# Altium footprint library walkeeg_lib.PcbLib: 2 footprints
Each footprint in its own frame and in the unit in brackets; x right, y up, seen from the top. Pads: shape width x height; smd on the part's side, far side on the other; paste and mask are expansions set on the pad; w line width, h text height; cw(c..) or ccw(c..) is an arc to the next point about the centre after c.
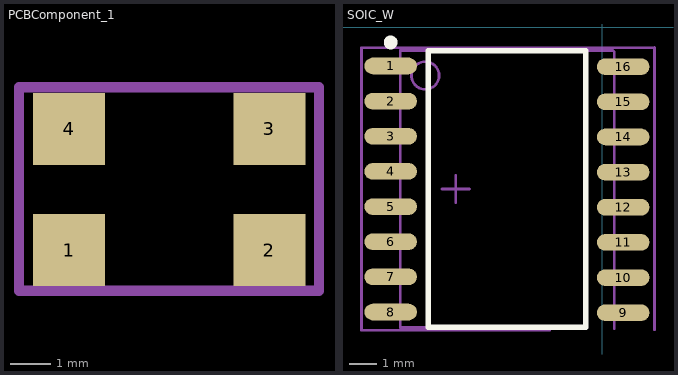
[diagram p0: the footprints below, top view; thin cyan lines are the x and y axes]

## PCBComponent_1 [mm]
pads (4):
  rect 1.8x1.8 smd: 1(-527.575,-725.425) 2(-522.575,-725.425) 3(-522.575,-722.4) 4(-527.575,-722.4)
Mechanical 1:
  lines w0.254: -528.828,-726.44 -528.828,-721.36 -521.335,-721.36 -521.335,-726.44 -528.828,-726.44

## SOIC_W [mm]
pads (16):
  oval 1.9x0.6 smd: 1(-7.654,-1.391) 2(-7.654,-2.661) 3(-7.654,-3.931) 4(-7.654,-5.201) 5(-7.654,-6.471) 6(-7.654,-7.741) 7(-7.654,-9.011) 8(-7.654,-10.281) 9(0.746,-10.306) 10(0.746,-9.036) 11(0.746,-7.766) 12(0.746,-6.496) 13(0.746,-5.226) 14(0.746,-3.956) 15(0.746,-2.686) 16(0.746,-1.416)
Top Overlay:
  circle w0.25: c-7.654,-0.541 r0.125
  lines w0.2: -6.304,-10.836 -0.6,-10.836 -0.6,-0.836 -6.304,-0.836 -6.304,-10.836
Mechanical 13:
  circle w0.1: c-6.404,-1.736 r0.5
  lines w0.1: -2.1,-10.836 -7.304,-10.836 -7.304,-0.836 0.375,-0.836 ; 0.425,-10.875 0.425,-0.875
Mechanical 15:
  lines w0.1: -5.804,-5.836 -4.804,-5.836 ; -5.304,-6.336 -5.304,-5.336 ; -1.904,-10.936 -8.704,-10.936 -8.704,-0.736 1.85,-0.736 ; 1.875,-10.925 1.875,-0.725
3D body: height 1.91, standoff 0, extent -5.35,-10.85 -1.35,-0.85